# EAGLE library part 735-127 (library con-wago_735)
Serie 735, Klemmenblock für Leiterplatten 2 Lötstifte/Pol in Reihe / Series 735, Compact PCB terminal block 2 solder pins/pole, in line Polzahl / Pole No.: 7 Rastermaß / Pitch: 3.81 - 3.81 mm Bemessungsspannung / Rated Voltage: 320 V Nennstrom / Nominal Current: 10 A Leiterquerschnitt / Conductor Size: 0.5 - 1.5 mm2 Anschlusstechnik / Connection Technology: PUSH WIRE® Lötstiftlänge: / Solder Pin Length: 3.5 mm Leitereinführung (zur Platine) / Conductor entry angle (to PCB): 90 ° Farbe / Color: orange / orange Stand: 01.01.2014. Die jeweils aktuellen Daten zu diesem Artikel finden Sie in unserem Produktkatalog, den Sie unter www.wago.com einsehen können. As of: 01/01/2014. Please find the newest data for this article in our product catalogue, which can be viewed under www.wago.com.
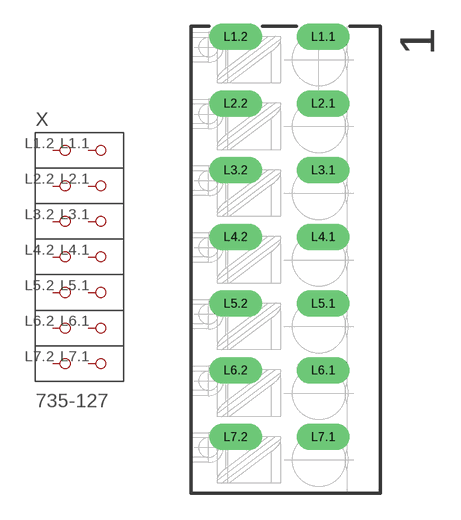
[diagram p3: symbol with the pads of P-735-127; footprint P-735-127]

Designator prefix X

## 735-127  [P-735-127]
L1.1  P1.1
L1.2  P1.2
L2.1  P2.1
L2.2  P2.2
L3.1  P3.1
L3.2  P3.2
L4.1  P4.1
L4.2  P4.2
L5.1  P5.1
L5.2  P5.2
L6.1  P6.1
L6.2  P6.2
L7.1  P7.1
L7.2  P7.2

## Footprint P-735-127 (pad centres in mm)
drill 1 long: L1.1 2.15,12.735; L1.2 -2.85,12.735; L2.1 2.15,8.925; L2.2 -2.85,8.925; L3.1 2.15,5.115; L3.2 -2.85,5.115; L4.1 2.15,1.305; L4.2 -2.85,1.305; L5.1 2.15,-2.505; L5.2 -2.85,-2.505; L6.1 2.15,-6.315; L6.2 -2.85,-6.315; L7.1 2.15,-10.125; L7.2 -2.85,-10.125